# Altium footprint library PCB1.PcbLib: 4 footprints
Each footprint in its own frame and in the unit in brackets; x right, y up, seen from the top. Pads: shape width x height; smd on the part's side, far side on the other; paste and mask are expansions set on the pad; w line width, h text height; cw(c..) or ccw(c..) is an arc to the next point about the centre after c.
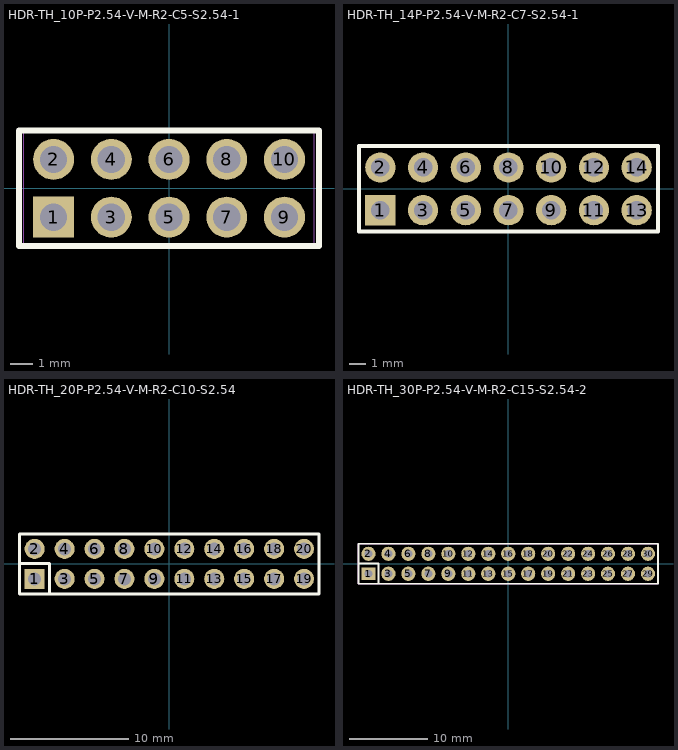
[diagram p0: the footprints below, top view; thin cyan lines are the x and y axes]

## HDR-TH_10P-P2.54-V-M-R2-C5-S2.54-1 [mil]
pads (10):
  rect 70.9x70.9 hole 47.2: 1(-200,-50)
  round 70.9 hole 47.2: 2(-200,50) 3(-100,-50) 4(-100,50) 5(0,-50) 6(0,50) 7(100,-50) 8(100,50) 9(200,-50) 10(200,50)
Top Overlay:
  lines w10: -259.9,-100 259.8,-100 259.8,100 -259.9,100 -259.9,-100
Mechanical 7:
  lines w2: -251.4,-100 -251.4,100 251.4,98.4 251.4,-98.5 -251.4,-100
Mechanical 8:
  region: -249,-100 -249.4,-101.3 -250.4,-102.2 -251.7,-102.4 -252.9,-101.8 -253.7,-100.7 -253.7,-99.4 -252.9,-98.3 -251.7,-97.7 -250.4,-97.9 -249.4,-98.8
Mechanical 9:
  region: 187.4,62.6 212.6,62.6 212.6,37.4 187.4,37.4
  region: 187.4,-37.4 212.6,-37.4 212.6,-62.6 187.4,-62.6
  region: 87.4,62.6 112.6,62.6 112.6,37.4 87.4,37.4
  region: 87.4,-37.4 112.6,-37.4 112.6,-62.6 87.4,-62.6
  region: -12.6,62.6 12.6,62.6 12.6,37.4 -12.6,37.4
  region: -12.6,-37.4 12.6,-37.4 12.6,-62.6 -12.6,-62.6
  region: -112.6,62.6 -87.4,62.6 -87.4,37.4 -112.6,37.4
  region: -112.6,-37.4 -87.4,-37.4 -87.4,-62.6 -112.6,-62.6
  region: -212.6,62.6 -187.4,62.6 -187.4,37.4 -212.6,37.4
  region: -212.6,-37.4 -187.4,-37.4 -187.4,-62.6 -212.6,-62.6

## HDR-TH_14P-P2.54-V-M-R2-C7-S2.54-1 [mil]
pads (14):
  rect 70.9x70.9 hole 43.3 paste-99999 mask+2: 1(-300,-50)
  round 70.9 hole 43.3 paste-99999 mask+2: 2(-300,50) 3(-200,-50) 4(-200,50) 5(-100,-50) 6(-100,50) 7(0,-50) 8(0,50) 9(100,-50) 10(100,50) 11(200,-50) 12(200,50) 13(300,-50) 14(300,50)
Top Overlay:
  lines w10: -350,-100 -350,100 350,100 350,-100 -350,-100
Mechanical 7:
  lines w2: -350,-98.4 350,-98.4 350,98.4 -350,98.4 -350,-98.4
Mechanical 8:
  region: -347.7,-98.4 -348.1,-99.7 -349.1,-100.6 -350.4,-100.8 -351.6,-100.2 -352.3,-99.1 -352.3,-97.8 -351.6,-96.6 -350.4,-96.1 -349.1,-96.3 -348.1,-97.2
Mechanical 9:
  region: -312.6,-37.4 -287.4,-37.4 -287.4,-62.6 -312.6,-62.6
  region: -312.6,62.6 -287.4,62.6 -287.4,37.4 -312.6,37.4
  region: -212.6,-37.4 -187.4,-37.4 -187.4,-62.6 -212.6,-62.6
  region: -212.6,62.6 -187.4,62.6 -187.4,37.4 -212.6,37.4
  region: -112.6,-37.4 -87.4,-37.4 -87.4,-62.6 -112.6,-62.6
  region: -112.6,62.6 -87.4,62.6 -87.4,37.4 -112.6,37.4
  region: -12.6,-37.4 12.6,-37.4 12.6,-62.6 -12.6,-62.6
  region: -12.6,62.6 12.6,62.6 12.6,37.4 -12.6,37.4
  region: 87.4,-37.4 112.6,-37.4 112.6,-62.6 87.4,-62.6
  region: 87.4,62.6 112.6,62.6 112.6,37.4 87.4,37.4
  region: 187.4,-37.4 212.6,-37.4 212.6,-62.6 187.4,-62.6
  region: 187.4,62.6 212.6,62.6 212.6,37.4 187.4,37.4
  region: 287.4,-37.4 312.6,-37.4 312.6,-62.6 287.4,-62.6
  region: 287.4,62.6 312.6,62.6 312.6,37.4 287.4,37.4

## HDR-TH_20P-P2.54-V-M-R2-C10-S2.54 [mil]
pads (20):
  rect 66.9x66.9 hole 43.3: 1(-450,-50)
  round 66.9 hole 43.3: 2(-450,50) 3(-350,-50) 4(-350,50) 5(-250,-50) 6(-250,50) 7(-150,-50) 8(-150,50) 9(-50,-50) 10(-50,50) 11(50,-50) 12(50,50) 13(150,-50) 14(150,50) 15(250,-50) 16(250,50) 17(350,-50) 18(350,50) 19(450,-50) 20(450,50)
Top Overlay:
  lines w10: -500,1.6 -400,1.6 -400,-98.4 ; -500,-100 -500,100 -425,100 500,100 500,-100 -425,-100 -500,-100
Mechanical 7:
  lines w2: -500,-98.4 500,-98.4 500,98.4 -500,98.4 -500,-98.4
Mechanical 8:
  region: -497.7,-98.4 -498.1,-99.7 -499.1,-100.6 -500.4,-100.8 -501.6,-100.2 -502.3,-99.1 -502.3,-97.8 -501.6,-96.6 -500.4,-96.1 -499.1,-96.3 -498.1,-97.2
Mechanical 9:
  region: 437.4,62.6 462.6,62.6 462.6,37.4 437.4,37.4
  region: 437.4,-37.4 462.6,-37.4 462.6,-62.6 437.4,-62.6
  region: 337.4,62.6 362.6,62.6 362.6,37.4 337.4,37.4
  region: 337.4,-37.4 362.6,-37.4 362.6,-62.6 337.4,-62.6
  region: 237.4,62.6 262.6,62.6 262.6,37.4 237.4,37.4
  region: 237.4,-37.4 262.6,-37.4 262.6,-62.6 237.4,-62.6
  region: 137.4,62.6 162.6,62.6 162.6,37.4 137.4,37.4
  region: 137.4,-37.4 162.6,-37.4 162.6,-62.6 137.4,-62.6
  region: 37.4,62.6 62.6,62.6 62.6,37.4 37.4,37.4
  region: 37.4,-37.4 62.6,-37.4 62.6,-62.6 37.4,-62.6
  region: -62.6,62.6 -37.4,62.6 -37.4,37.4 -62.6,37.4
  region: -62.6,-37.4 -37.4,-37.4 -37.4,-62.6 -62.6,-62.6
  region: -162.6,62.6 -137.4,62.6 -137.4,37.4 -162.6,37.4
  region: -162.6,-37.4 -137.4,-37.4 -137.4,-62.6 -162.6,-62.6
  region: -262.6,62.6 -237.4,62.6 -237.4,37.4 -262.6,37.4
  region: -262.6,-37.4 -237.4,-37.4 -237.4,-62.6 -262.6,-62.6
  region: -362.6,62.6 -337.4,62.6 -337.4,37.4 -362.6,37.4
  region: -362.6,-37.4 -337.4,-37.4 -337.4,-62.6 -362.6,-62.6
  region: -462.6,62.6 -437.4,62.6 -437.4,37.4 -462.6,37.4
  region: -462.6,-37.4 -437.4,-37.4 -437.4,-62.6 -462.6,-62.6

## HDR-TH_30P-P2.54-V-M-R2-C15-S2.54-2 [mil]
pads (30):
  rect 70.9x62 hole 39.4: 1(-700,-50)
  round 70.9 hole 39.4: 2(-700,50) 3(-600,-50) 4(-600,50) 5(-500,-50) 6(-500,50) 7(-400,-50) 8(-400,50) 9(-300,-50) 10(-300,50) 11(-200,-50) 12(-200,50) 13(-100,-50) 14(-100,50) 15(0,-50) 16(0,50) 17(100,-50) 18(100,50) 19(200,-50) 20(200,50) 21(300,-50) 22(300,50) 23(400,-50) 24(400,50) 25(500,-50) 26(500,50) 27(600,-50) 28(600,50) 29(700,-50) 30(700,50)
Top Overlay:
  lines w8: -750,-100 750,-100 750,100 -750,100 -750,-100
  lines w10: -750,0.2 -650,0.2 -650,-100
Mechanical 7:
  lines w2: -750,-100 -750,100 750,100 750,-100 -750,-100
Mechanical 8:
  region: -747.7,-100 -748.1,-101.2 -749.1,-102.1 -750.4,-102.3 -751.6,-101.7 -752.3,-100.6 -752.3,-99.3 -751.6,-98.2 -750.4,-97.6 -749.1,-97.8 -748.1,-98.7
Mechanical 9:
  region: 687.4,62.6 712.6,62.6 712.6,37.4 687.4,37.4
  region: 687.4,-37.4 712.6,-37.4 712.6,-62.6 687.4,-62.6
  region: 587.4,62.6 612.6,62.6 612.6,37.4 587.4,37.4
  region: 587.4,-37.4 612.6,-37.4 612.6,-62.6 587.4,-62.6
  region: 487.4,62.6 512.6,62.6 512.6,37.4 487.4,37.4
  region: 487.4,-37.4 512.6,-37.4 512.6,-62.6 487.4,-62.6
  region: 387.4,62.6 412.6,62.6 412.6,37.4 387.4,37.4
  region: 387.4,-37.4 412.6,-37.4 412.6,-62.6 387.4,-62.6
  region: 287.4,62.6 312.6,62.6 312.6,37.4 287.4,37.4
  region: 287.4,-37.4 312.6,-37.4 312.6,-62.6 287.4,-62.6
  region: 187.4,62.6 212.6,62.6 212.6,37.4 187.4,37.4
  region: 187.4,-37.4 212.6,-37.4 212.6,-62.6 187.4,-62.6
  region: 87.4,62.6 112.6,62.6 112.6,37.4 87.4,37.4
  region: 87.4,-37.4 112.6,-37.4 112.6,-62.6 87.4,-62.6
  region: -12.6,62.6 12.6,62.6 12.6,37.4 -12.6,37.4
  region: -12.6,-37.4 12.6,-37.4 12.6,-62.6 -12.6,-62.6
  region: -112.6,62.6 -87.4,62.6 -87.4,37.4 -112.6,37.4
  region: -112.6,-37.4 -87.4,-37.4 -87.4,-62.6 -112.6,-62.6
  region: -212.6,62.6 -187.4,62.6 -187.4,37.4 -212.6,37.4
  region: -212.6,-37.4 -187.4,-37.4 -187.4,-62.6 -212.6,-62.6
  region: -312.6,62.6 -287.4,62.6 -287.4,37.4 -312.6,37.4
  region: -312.6,-37.4 -287.4,-37.4 -287.4,-62.6 -312.6,-62.6
  region: -412.6,62.6 -387.4,62.6 -387.4,37.4 -412.6,37.4
  region: -412.6,-37.4 -387.4,-37.4 -387.4,-62.6 -412.6,-62.6
  region: -512.6,62.6 -487.4,62.6 -487.4,37.4 -512.6,37.4
  region: -512.6,-37.4 -487.4,-37.4 -487.4,-62.6 -512.6,-62.6
  region: -612.6,62.6 -587.4,62.6 -587.4,37.4 -612.6,37.4
  region: -612.6,-37.4 -587.4,-37.4 -587.4,-62.6 -612.6,-62.6
  region: -712.6,62.6 -687.4,62.6 -687.4,37.4 -712.6,37.4
  region: -712.6,-37.4 -687.4,-37.4 -687.4,-62.6 -712.6,-62.6